# EAGLE library part KS8997 (library micrel)
8-Port 10/100 Integrated Switch
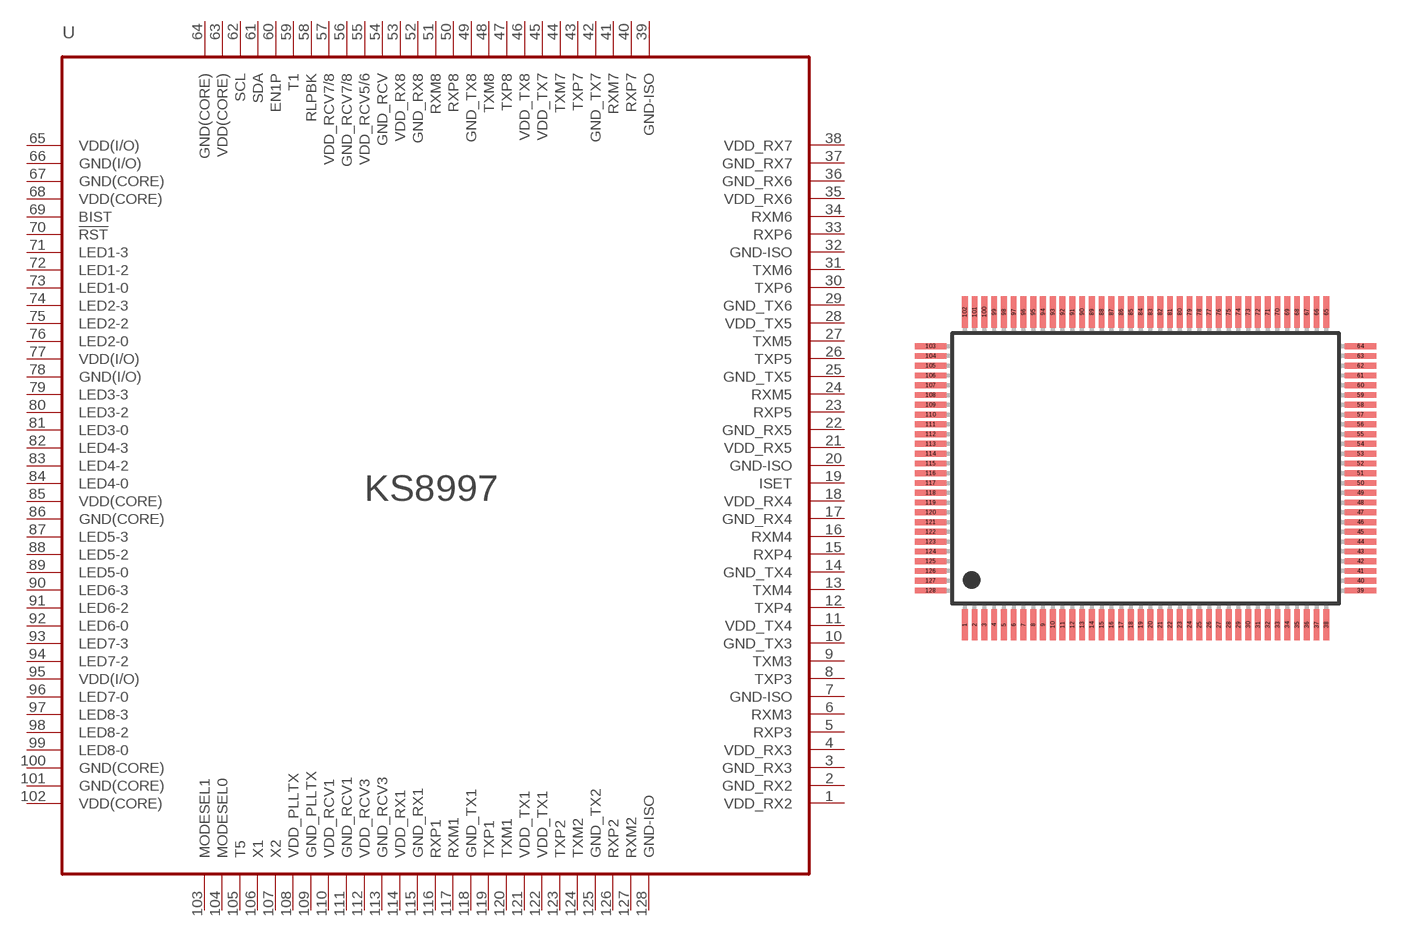
[diagram p3: symbol with the pads of PQFP128-PQ; footprint PQFP128-PQ]

Designator prefix U

## KS8997  [PQFP128-PQ]
1  VDD_RX2  pwr
2  GND_RX2  pwr
3  GND_RX3  pwr
4  VDD_RX3  pwr
5  RXP3  in
6  RXM3  in
7  GND-ISO  pwr
8  TXP3  out
9  TXM3  out
10  GND_TX3  pwr
11  VDD_TX4  pwr
12  TXP4  out
13  TXM4  out
14  GND_TX4  pwr
15  RXP4  in
16  RXM4  in
17  GND_RX4  pwr
18  VDD_RX4  pwr
19  ISET
20  GND-ISO  pwr
21  VDD_RX5  pwr
22  GND_RX5  pwr
23  RXP5  in
24  RXM5  in
25  GND_TX5  pwr
26  TXP5  out
27  TXM5  out
28  VDD_TX5  pwr
29  GND_TX6  pwr
30  TXP6  out
31  TXM6  out
32  GND-ISO  pwr
33  RXP6
34  RXM6  in
35  VDD_RX6  pwr
36  GND_RX6  pwr
37  GND_RX7  pwr
38  VDD_RX7  pwr
39  GND-ISO  pwr
40  RXP7  in
41  RXM7  in
42  GND_TX7  pwr
43  TXP7  out
44  TXM7  out
45  VDD_TX7  pwr
46  VDD_TX8  pwr
47  TXP8  out
48  TXM8  out
49  GND_TX8  pwr
50  RXP8  in
51  RXM8  in
52  GND_RX8  pwr
53  VDD_RX8  pwr
54  GND_RCV  pwr
55  VDD_RCV5/6  pwr
56  GND_RCV7/8  pwr
57  VDD_RCV7/8  pwr
58  RLPBK  in
59  T1
60  EN1P  in
61  SDA
62  SCL
63  VDD(CORE)  pwr
64  GND(CORE)  pwr
65  VDD(I/O)  pwr
66  GND(I/O)  pwr
67  GND(CORE)  pwr
68  VDD(CORE)  pwr
69  BIST  in
70  !RST!  in
71  LED1-3
72  LED1-2
73  LED1-0
74  LED2-3
75  LED2-2
76  LED2-0
77  VDD(I/O)  pwr
78  GND(I/O)  pwr
79  LED3-3
80  LED3-2
81  LED3-0
82  LED4-3
83  LED4-2
84  LED4-0
85  VDD(CORE)  pwr
86  GND(CORE)  pwr
87  LED5-3
88  LED5-2
89  LED5-0
90  LED6-3
91  LED6-2
92  LED6-0
93  LED7-3
94  LED7-2
95  VDD(I/O)  pwr
96  LED7-0
97  LED8-3
98  LED8-2
99  LED8-0
100  GND(CORE)  pwr
101  GND(CORE)  pwr
102  VDD(CORE)  pwr
103  MODESEL1  in
104  MODESEL0  in
105  T5
106  X1  in
107  X2  out
108  VDD_PLLTX  pwr
109  GND_PLLTX  pwr
110  VDD_RCV1  pwr
111  GND_RCV1  pwr
112  VDD_RCV3  pwr
113  GND_RCV3  pwr
114  VDD_RX1  pwr
115  GND_RX1  pwr
116  RXP1  in
117  RXM1  in
118  GND_TX1  pwr
119  TXP1
120  TXM1
121  VDD_TX1  pwr
122  VDD_TX1  pwr
123  TXP2
124  TXM2
125  GND_TX2  pwr
126  RXP2  in
127  RXM2  in
128  GND-ISO  pwr

## Footprint PQFP128-PQ (pad centres in mm)
PQFP 14 x 20 mm 128 Lead 128-Pin PQFP (PQ)
smd 0.3 x 1.6: 1 -9.25,-8; 2 -8.75,-8; 3 -8.25,-8; 4 -7.75,-8; 5 -7.25,-8; 6 -6.75,-8; 7 -6.25,-8; 8 -5.75,-8; 9 -5.25,-8; 10 -4.75,-8; 11 -4.25,-8; 12 -3.75,-8; 13 -3.25,-8; 14 -2.75,-8; 15 -2.25,-8; 16 -1.75,-8; 17 -1.25,-8; 18 -0.75,-8; 19 -0.25,-8; 20 0.25,-8; 21 0.75,-8; 22 1.25,-8; 23 1.75,-8; 24 2.25,-8; 25 2.75,-8; 26 3.25,-8; 27 3.75,-8; 28 4.25,-8; 29 4.75,-8; 30 5.25,-8; 31 5.75,-8; 32 6.25,-8; 33 6.75,-8; 34 7.25,-8; 35 7.75,-8; 36 8.25,-8; 37 8.75,-8; 38 9.25,-8; 65 9.25,8; 66 8.75,8; 67 8.25,8; 68 7.75,8; 69 7.25,8; 70 6.75,8; 71 6.25,8; 72 5.75,8; 73 5.25,8; 74 4.75,8; 75 4.25,8; 76 3.75,8; 77 3.25,8; 78 2.75,8; 79 2.25,8; 80 1.75,8; 81 1.25,8; 82 0.75,8; 83 0.25,8; 84 -0.25,8; 85 -0.75,8; 86 -1.25,8; 87 -1.75,8; 88 -2.25,8; 89 -2.75,8; 90 -3.25,8; 91 -3.75,8; 92 -4.25,8; 93 -4.75,8; 94 -5.25,8; 95 -5.75,8; 96 -6.25,8; 97 -6.75,8; 98 -7.25,8; 99 -7.75,8; 100 -8.25,8; 101 -8.75,8; 102 -9.25,8
smd 1.6 x 0.3: 39 11,-6.25; 40 11,-5.75; 41 11,-5.25; 42 11,-4.75; 43 11,-4.25; 44 11,-3.75; 45 11,-3.25; 46 11,-2.75; 47 11,-2.25; 48 11,-1.75; 49 11,-1.25; 50 11,-0.75; 51 11,-0.25; 52 11,0.25; 53 11,0.75; 54 11,1.25; 55 11,1.75; 56 11,2.25; 57 11,2.75; 58 11,3.25; 59 11,3.75; 60 11,4.25; 61 11,4.75; 62 11,5.25; 63 11,5.75; 64 11,6.25; 103 -11,6.25; 104 -11,5.75; 105 -11,5.25; 106 -11,4.75; 107 -11,4.25; 108 -11,3.75; 109 -11,3.25; 110 -11,2.75; 111 -11,2.25; 112 -11,1.75; 113 -11,1.25; 114 -11,0.75; 115 -11,0.25; 116 -11,-0.25; 117 -11,-0.75; 118 -11,-1.25; 119 -11,-1.75; 120 -11,-2.25; 121 -11,-2.75; 122 -11,-3.25; 123 -11,-3.75; 124 -11,-4.25; 125 -11,-4.75; 126 -11,-5.25; 127 -11,-5.75; 128 -11,-6.25